# Altium footprint library lumiled.PCBLIB: 3 footprints
Each footprint in its own frame and in the unit in brackets; x right, y up, seen from the top. Pads: shape width x height; smd on the part's side, far side on the other; paste and mask are expansions set on the pad; w line width, h text height; cw(c..) or ccw(c..) is an arc to the next point about the centre after c.
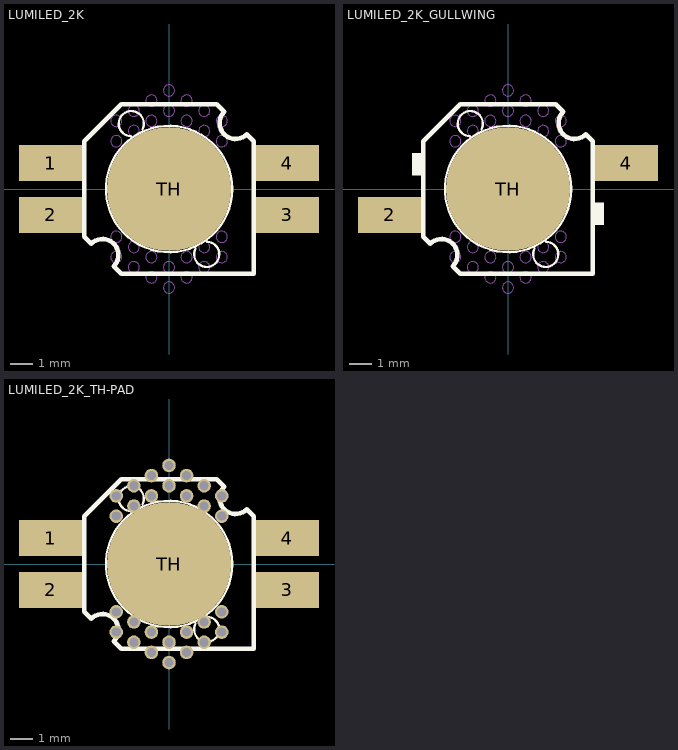
[diagram p0: the footprints below, top view; thin cyan lines are the x and y axes]

## LUMILED_2K [mil]
pads (5):
  rect 110.24x62.99 smd: 1(-206.69,45.28) 2(-206.69,-45.28) 3(206.69,-45.28) 4(206.69,45.28)
  rrect100% 216.54x216.54 smd: TH(0,0)
Top Overlay:
  circle w4: c0,0 r110.24
  lines w0: -49.44,-144.09 -29.76,-144.09 -49.44,-144.09
  lines w4: -66.84,92.08 cw(c-65.84,114.03) -46.32,103.93 ; 46.32,-103.92 ccw(c65.84,-114.03) 66.84,-92.07
  lines w8: -147.64,-83.66 -147.64,83.66 -83.66,147.64 83.66,147.64 96.46,134.84 ccw(c116.12,115.13) 135.83,95.47 147.64,83.66 147.64,-147.64 -83.66,-147.64 -96.46,-134.84 ccw(c-116.12,-115.13) -135.83,-95.47 -147.64,-83.66
Top Paste:
  rectangle: -246.06,19.69 -167.32,68.9
  rectangle: -246.06,-68.9 -167.32,-19.69
  region: 0,0 10,0 10,10 0,10
Top Solder:
  region: 0,0 10,0 10,10 0,10
Mechanical 16:
  circle w0.04: c92.06,83.42 r9.84
  circle w0.04: c92.06,118.85 r9.84
  circle w0.04: c61.37,101.13 r9.84
  circle w0.04: c61.37,136.57 r9.84
  circle w0.04: c30.69,118.85 r9.84
  circle w0.04: c30.69,154.28 r9.84
  circle w0.04: c0,136.57 r9.84
  circle w0.04: c0,172 r9.84
  circle w0.04: c-30.68,154.28 r9.84
  circle w0.04: c-30.68,118.85 r9.84
  circle w0.04: c-61.37,101.13 r9.84
  circle w0.04: c-61.37,136.57 r9.84
  circle w0.04: c92.06,-83.42 r9.84
  circle w0.04: c92.06,-118.85 r9.84
  circle w0.04: c61.37,-101.14 r9.84
  circle w0.04: c61.37,-136.57 r9.84
  circle w0.04: c30.69,-118.85 r9.84
  circle w0.04: c30.69,-154.29 r9.84
  circle w0.04: c0,-136.57 r9.84
  circle w0.04: c0,-172 r9.84
  circle w0.04: c-30.68,-154.29 r9.84
  circle w0.04: c-30.68,-118.85 r9.84
  circle w0.04: c-61.37,-136.57 r9.84
  circle w0.04: c-92.06,-118.85 r9.84
  circle w0.04: c-61.37,-101.14 r9.84
  circle w0.04: c-92.06,-83.42 r9.84
  circle w0.04: c-92.06,83.42 r9.84
  circle w0.04: c-92.06,118.85 r9.84
  rectangle: -236.22,23.62 -150.59,62.99
  rectangle: -236.22,-62.99 -151.57,-23.62
  region: 236.22,-23.62 150.59,-23.62 150.59,-62.99 236.22,-62.99
  region: 236.22,62.99 151.57,62.99 151.57,23.62 236.22,23.62

## LUMILED_2K_GULLWING [mil]
pads (3):
  rect 110.24x62.99 smd: 2(-206.69,-45.28) 4(206.69,45.28)
  rrect100% 216.54x216.54 smd: TH(0,0)
Top Overlay:
  circle w4: c0,0 r110.24
  rectangle: -167.32,23.62 -150.59,62.99
  region: 167.32,-23.62 150.59,-23.62 150.59,-62.99 167.32,-62.99
  lines w0: -49.44,-144.09 -29.76,-144.09 -49.44,-144.09
  lines w4: -66.84,92.08 cw(c-65.84,114.03) -46.32,103.93 ; 46.32,-103.92 ccw(c65.84,-114.03) 66.84,-92.07
  lines w8: -147.64,-83.66 -147.64,83.66 -83.66,147.64 83.66,147.64 96.46,134.84 ccw(c116.12,115.13) 135.83,95.47 147.64,83.66 147.64,-147.64 -83.66,-147.64 -96.46,-134.84 ccw(c-116.12,-115.13) -135.83,-95.47 -147.64,-83.66
Top Paste:
  rectangle: -246.06,19.69 -167.32,68.9
  rectangle: -246.06,-68.9 -167.32,-19.69
  region: 0,0 10,0 10,10 0,10
Top Solder:
  region: 0,0 10,0 10,10 0,10
Mechanical 16:
  circle w0.04: c92.06,83.42 r9.84
  circle w0.04: c92.06,118.85 r9.84
  circle w0.04: c61.37,101.13 r9.84
  circle w0.04: c61.37,136.57 r9.84
  circle w0.04: c30.69,118.85 r9.84
  circle w0.04: c30.69,154.28 r9.84
  circle w0.04: c0,136.57 r9.84
  circle w0.04: c0,172 r9.84
  circle w0.04: c-30.68,154.28 r9.84
  circle w0.04: c-30.68,118.85 r9.84
  circle w0.04: c-61.37,101.13 r9.84
  circle w0.04: c-61.37,136.57 r9.84
  circle w0.04: c92.06,-83.42 r9.84
  circle w0.04: c92.06,-118.85 r9.84
  circle w0.04: c61.37,-101.14 r9.84
  circle w0.04: c61.37,-136.57 r9.84
  circle w0.04: c30.69,-118.85 r9.84
  circle w0.04: c30.69,-154.29 r9.84
  circle w0.04: c0,-136.57 r9.84
  circle w0.04: c0,-172 r9.84
  circle w0.04: c-30.68,-154.29 r9.84
  circle w0.04: c-30.68,-118.85 r9.84
  circle w0.04: c-61.37,-136.57 r9.84
  circle w0.04: c-92.06,-118.85 r9.84
  circle w0.04: c-61.37,-101.14 r9.84
  circle w0.04: c-92.06,-83.42 r9.84
  circle w0.04: c-92.06,83.42 r9.84
  circle w0.04: c-92.06,118.85 r9.84
  rectangle: -236.22,-62.99 -151.57,-23.62
  region: 236.22,62.99 151.57,62.99 151.57,23.62 236.22,23.62

## LUMILED_2K_TH-PAD [mil]
pads (33):
  rect 110.24x62.99 smd: 1(-206.69,45.28) 2(-206.69,-45.28) 3(206.69,-45.28) 4(206.69,45.28)
  rrect100% 216.54x216.54 smd: TH(0,0)
  round 23.62 hole 15.75: TH@1(92.06,83.42) TH@2(92.06,118.85) TH@3(61.37,101.13) TH@4(61.37,136.57) TH@5(30.69,118.85) TH@6(30.69,154.28) TH@7(0,136.57) TH@8(0,172) TH@9(-30.68,154.28) TH@10(-30.68,118.85) TH@11(-61.37,101.13) TH@12(-61.37,136.57) TH@13(92.06,-83.42) TH@14(92.06,-118.85) TH@15(61.37,-101.14) TH@16(61.37,-136.57) TH@17(30.69,-118.85) TH@18(30.69,-154.29) TH@19(0,-136.57) TH@20(0,-172) TH@21(-30.68,-154.29) TH@22(-30.68,-118.85) TH@23(-61.37,-136.57) TH@24(-92.06,-118.85) TH@25(-61.37,-101.14) TH@26(-92.06,-83.42) TH@27(-92.06,83.42) TH@28(-92.06,118.85)
Top Overlay:
  circle w4: c0,0 r110.24
  lines w0: -49.44,-144.09 -29.76,-144.09 -49.44,-144.09
  lines w4: -66.84,92.08 cw(c-65.84,114.03) -46.32,103.93 ; 46.32,-103.92 ccw(c65.84,-114.03) 66.84,-92.07
  lines w8: -147.64,-83.66 -147.64,83.66 -83.66,147.64 83.66,147.64 96.46,134.84 ccw(c116.12,115.13) 135.83,95.47 147.64,83.66 147.64,-147.64 -83.66,-147.64 -96.46,-134.84 ccw(c-116.12,-115.13) -135.83,-95.47 -147.64,-83.66
Top Paste:
  rectangle: -246.06,19.69 -167.32,68.9
  rectangle: -246.06,-68.9 -167.32,-19.69
  region: 0,0 10,0 10,10 0,10
Top Solder:
  circle w0: c92.06,83.42 r11.81
  circle w0: c92.06,118.85 r11.81
  circle w0: c61.37,101.13 r11.81
  circle w0: c61.37,136.57 r11.81
  circle w0: c30.69,118.85 r11.81
  circle w0: c30.69,154.28 r11.81
  circle w0: c0,136.57 r11.81
  circle w0: c0,172 r11.81
  circle w0: c-30.68,154.28 r11.81
  circle w0: c-30.68,118.85 r11.81
  circle w0: c-61.37,101.13 r11.81
  circle w0: c-61.37,136.57 r11.81
  circle w0: c92.06,-83.42 r11.81
  circle w0: c92.06,-118.85 r11.81
  circle w0: c61.37,-101.14 r11.81
  circle w0: c61.37,-136.57 r11.81
  circle w0: c30.69,-118.85 r11.81
  circle w0: c30.69,-154.29 r11.81
  circle w0: c0,-136.57 r11.81
  circle w0: c0,-172 r11.81
  circle w0: c-30.68,-154.29 r11.81
  circle w0: c-30.68,-118.85 r11.81
  circle w0: c-61.37,-136.57 r11.81
  circle w0: c-92.06,-118.85 r11.81
  circle w0: c-61.37,-101.14 r11.81
  circle w0: c-92.06,-83.42 r11.81
  circle w0: c-92.06,83.42 r11.81
  circle w0: c-92.06,118.85 r11.81
  region: 0,0 10,0 10,10 0,10
Mechanical 16:
  rectangle: -236.22,23.62 -150.59,62.99
  rectangle: -236.22,-62.99 -151.57,-23.62
  region: 236.22,-23.62 150.59,-23.62 150.59,-62.99 236.22,-62.99
  region: 236.22,62.99 151.57,62.99 151.57,23.62 236.22,23.62